# Altium footprint library CONN_SMT.PcbLib: 33 footprints (part 3 of 3)
Each footprint in its own frame and in the unit in brackets; x right, y up, seen from the top. Pads: shape width x height; smd on the part's side, far side on the other; paste and mask are expansions set on the pad; w line width, h text height; cw(c..) or ccw(c..) is an arc to the next point about the centre after c.
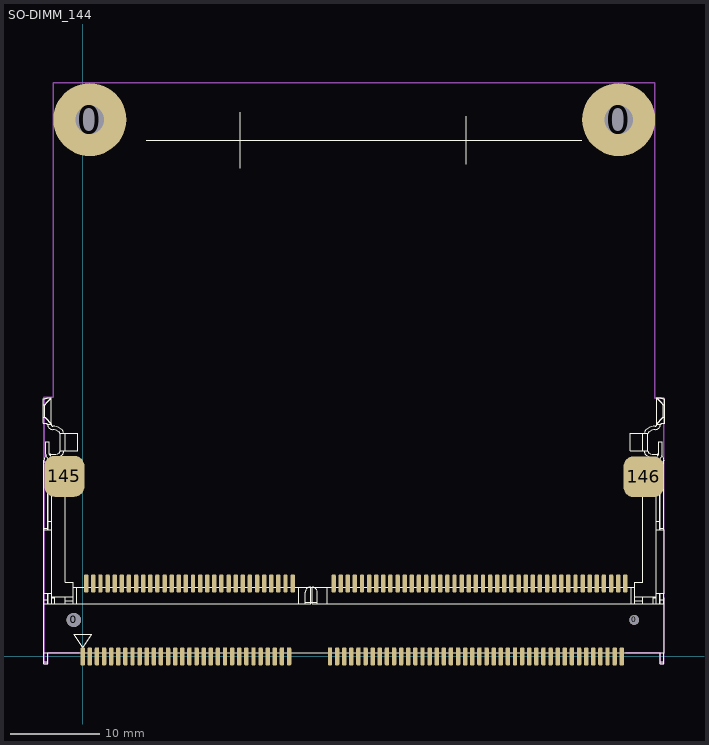
[diagram p2: the footprint, top view; thin cyan lines are the x and y axes]

## SO-DIMM_144 [mm]
height 5.6
pads (150):
  round 1.6 hole 1.6: 0(-1,4.1)
  round 8.2 hole 3.2: 0(0.8,60.35) 0(60.25,60.35)
  round 1.1 hole 1.1: 0(62,4.1)
  rrect50% 0.5x2 smd: 1(0,0) 2(0.4,8.2) 3(0.8,0) 4(1.2,8.2) 5(1.6,0) 6(2,8.2) 7(2.4,0) 8(2.8,8.2) 9(3.2,0) 10(3.6,8.2) 11(4,0) 12(4.4,8.2) 13(4.8,0) 14(5.2,8.2) 15(5.6,0) 16(6,8.2) 17(6.4,0) 18(6.8,8.2) 19(7.2,0) 20(7.6,8.2) 21(8,0) 22(8.4,8.2) 23(8.8,0) 24(9.2,8.2) 25(9.6,0) 26(10,8.2) 27(10.4,0) 28(10.8,8.2) 29(11.2,0) 30(11.6,8.2) 31(12,0) 32(12.4,8.2) 33(12.8,0) 34(13.2,8.2) 35(13.6,0) 36(14,8.2) 37(14.4,0) 38(14.8,8.2) 39(15.2,0) 40(15.6,8.2) 41(16,0) 42(16.4,8.2) 43(16.8,0) 44(17.2,8.2) 45(17.6,0) 46(18,8.2) 47(18.4,0) 48(18.8,8.2) 49(19.2,0) 50(19.6,8.2) 51(20,0) 52(20.4,8.2) 53(20.8,0) 54(21.2,8.2) 55(21.6,0) 56(22,8.2) 57(22.4,0) 58(22.8,8.2) 59(23.2,0) 60(23.6,8.2) 61(27.8,0) 62(28.2,8.2) 63(28.6,0) 64(29,8.2) 65(29.4,0) 66(29.8,8.2) 67(30.2,0) 68(30.6,8.2) 69(31,0) 70(31.4,8.2) 71(31.8,0) 72(32.2,8.2) 73(32.6,0) 74(33,8.2) 75(33.4,0) 76(33.8,8.2) 77(34.2,0) 78(34.6,8.2) 79(35,0) 80(35.4,8.2) 81(35.8,0) 82(36.2,8.2) 83(36.6,0) 84(37,8.2) 85(37.4,0) 86(37.8,8.2) 87(38.2,0) 88(38.6,8.2) 89(39,0) 90(39.4,8.2) 91(39.8,0) 92(40.2,8.2) 93(40.6,0) 94(41,8.2) 95(41.4,0) 96(41.8,8.2) 97(42.2,0) 98(42.6,8.2) 99(43,0) 100(43.4,8.2) 101(43.8,0) 102(44.2,8.2) 103(44.6,0) 104(45,8.2) 105(45.4,0) 106(45.8,8.2) 107(46.2,0) 108(46.6,8.2) 109(47,0) 110(47.4,8.2) 111(47.8,0) 112(48.2,8.2) 113(48.6,0) 114(49,8.2) 115(49.4,0) 116(49.8,8.2) 117(50.2,0) 118(50.6,8.2) 119(51,0) 120(51.4,8.2) 121(51.8,0) 122(52.2,8.2) 123(52.6,0) 124(53,8.2) 125(53.4,0) 126(53.8,8.2) 127(54.2,0) 128(54.6,8.2) 129(55,0) 130(55.4,8.2) 131(55.8,0) 132(56.2,8.2) 133(56.6,0) 134(57,8.2) 135(57.4,0) 136(57.8,8.2) 137(58.2,0) 138(58.6,8.2) 139(59,0) 140(59.4,8.2) 141(59.8,0) 142(60.2,8.2) 143(60.6,0) 144(61,8.2)
  rrect50% 4.5x4.6 smd: 145(-2.05,20.25) 146(63.05,20.2)
Top Overlay:
  drawing of 3786 lines, arcs and shapes, not listed
Comp Silk:
  lines w0.18: -0.4,0.4 -3.95,0.4 -3.95,-0.8 -4.35,-0.8 -4.35,29.15 -3.3,29.15 -3.3,64.5 -1,64.5 64.3,64.5 64.3,55.9 64.3,29.05 65.3,29.05 65.3,-0.8 64.9,-0.8 64.9,0.4 61.05,0.4
  text ".Designator" at 22.05,32.8 h1.5